# Altium schematic symbol library MyLibrary.SchLib: 261 symbols (part 1 of 4)
Pins are listed as number, name and electrical type; pins without a type are passive.

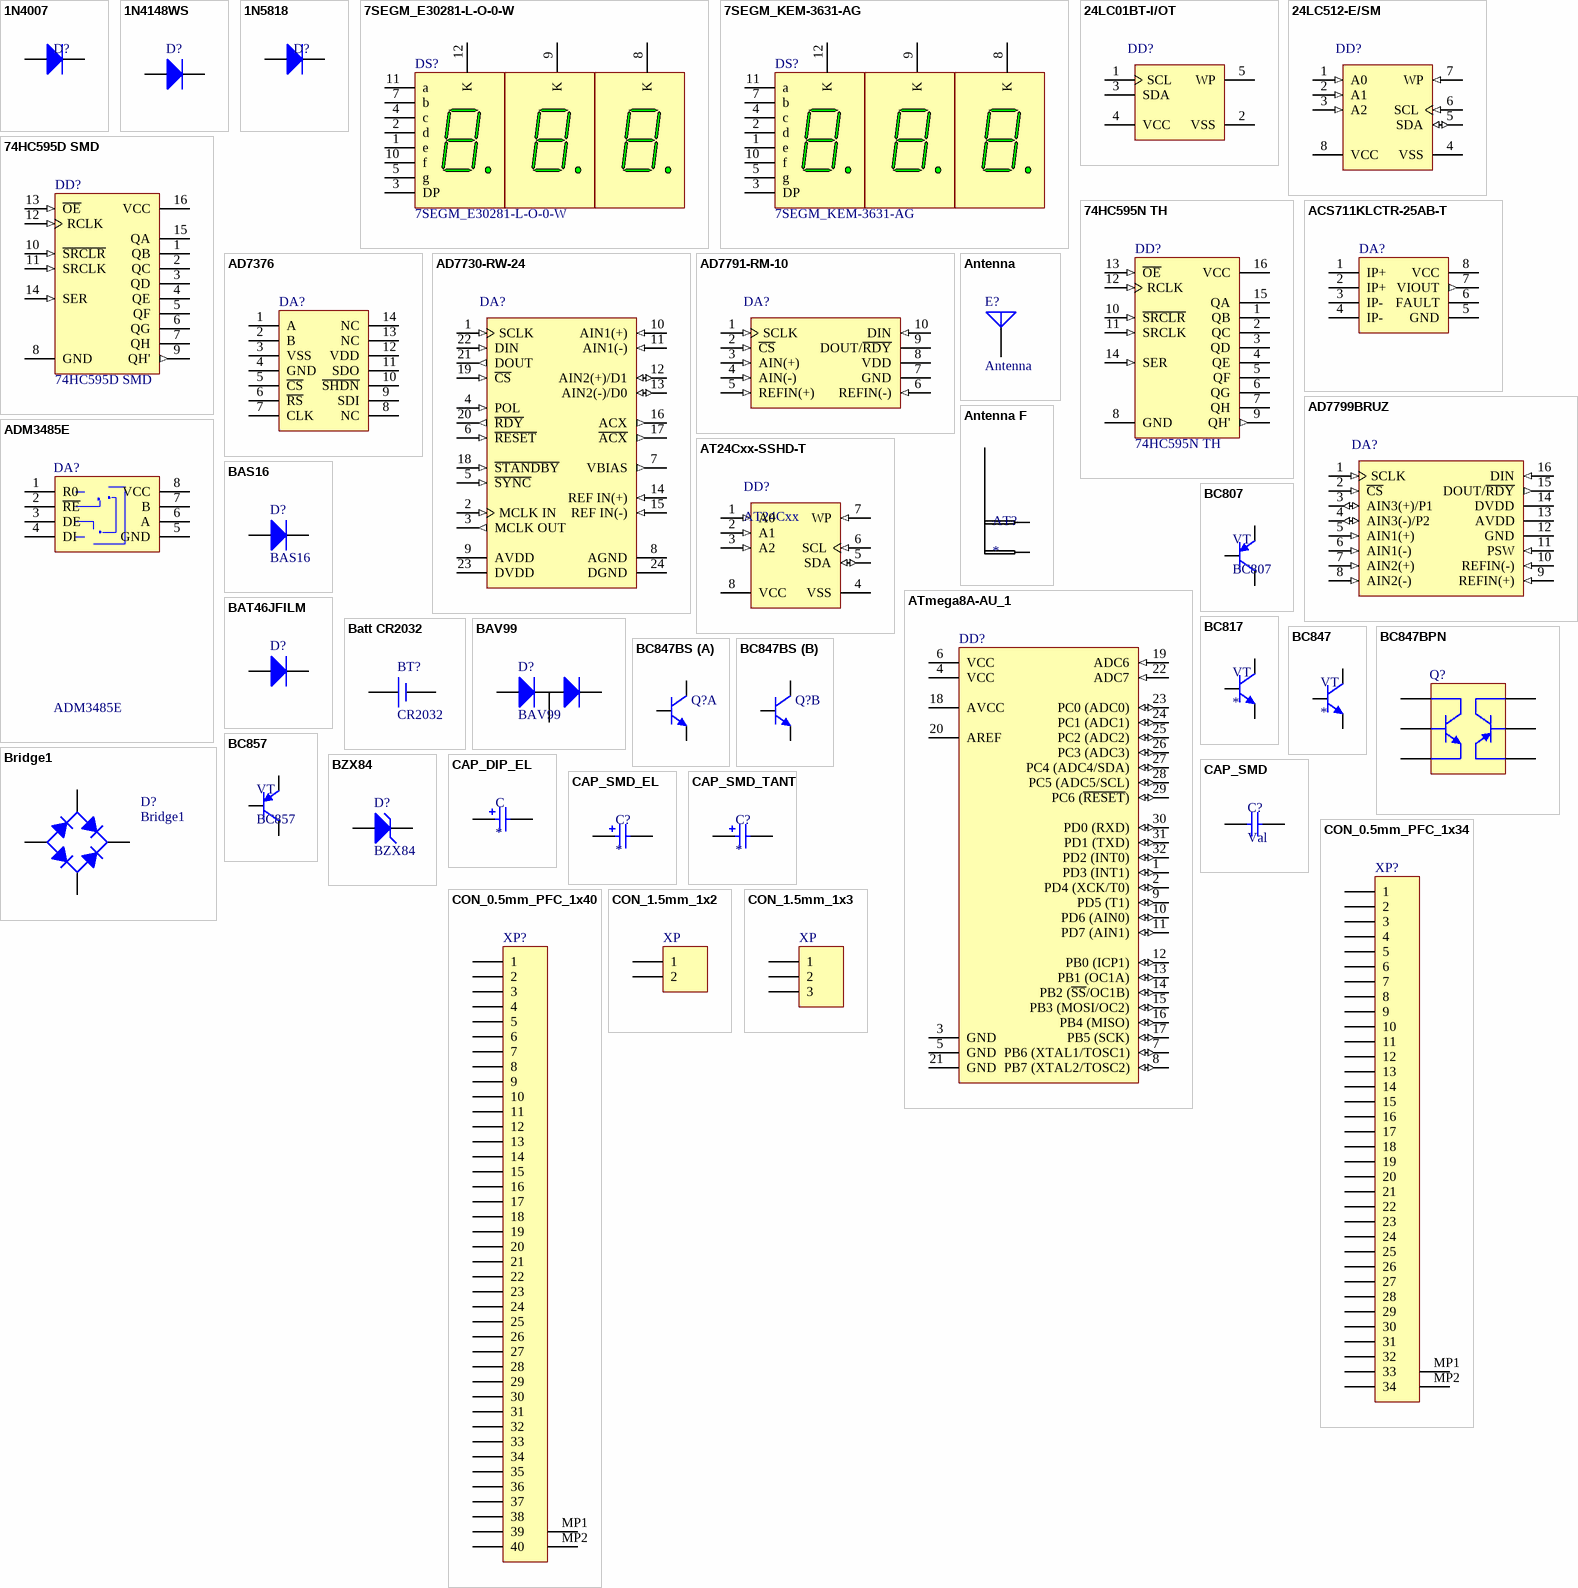
[diagram p0: symbols 1N4007 to CON_1.5mm_1x3]

## 1N4007
designator D?
Small Signal Fast Switching Diode 1000V, 1A; Published: 8-Jun-2000; LatestRevisionDate: 17-Jul-2002; LatestRevisionNote: Re-released for DXP Platform.; DatasheetDocument: 1998; PackageDocument: Aug-1999; PackageReference: DO-201AD; Publisher: Altium Limited; ComponentLink1Description: Manufacturer Link; ComponentLink1URL: http://www.fairchildsemi.com/; ComponentLink2Description: Datasheet; ComponentLink2URL: http://www.fairchildsemi.com/ds/1N%2F1N5400.pdf
footprint DIOD-1N (Diode, Axial; Body 95.2 x 2.7mm (LxDia. max), Lead Dia. 0.9 mm (max))
pins: 1 K, 2 A

## 1N4148WS
designator D?
Small Signal Fast Switching Diode; Published: 8-Jun-2000; LatestRevisionDate: 17-Jul-2002; LatestRevisionNote: Re-released for DXP Platform.; DatasheetDocument: 1998; PackageDocument: Aug-1999; PackageReference: DO-201AD; Publisher: Altium Limited; ComponentLink1Description: Manufacturer Link; ComponentLink1URL: http://www.fairchildsemi.com/; ComponentLink2Description: Datasheet; ComponentLink2URL: http://www.fairchildsemi.com/ds/1N%2F1N5400.pdf
footprint SOD-323 (SOD-123; 2 Leads; Body 2.7 x 1.6 mm, (LxW))
pins: 1 A, 2 K

## 1N5818
designator D?
Small Signal Fast Switching Diode; Published: 8-Jun-2000; LatestRevisionDate: 17-Jul-2002; LatestRevisionNote: Re-released for DXP Platform.; DatasheetDocument: 1998; PackageDocument: Aug-1999; PackageReference: DO-201AD; Publisher: Altium Limited; ComponentLink1Description: Manufacturer Link; ComponentLink1URL: http://www.fairchildsemi.com/; ComponentLink2Description: Datasheet; ComponentLink2URL: http://www.fairchildsemi.com/ds/1N%2F1N5400.pdf
footprint DIOD-1N (Diode, Axial; Body 95.2 x 2.7mm (LxDia. max), Lead Dia. 0.9 mm (max))
pins: 1 K, 2 A

## 7SEGM_E30281-L-O-0-W
designator DS?
7 mm Black Surface Green 7-Segment Display: CC, RH DP; MinimumIntensity: 860 ucd; Note: IF = 10 mA; Note: Pins 1 and 6 are redundant Cathodes.; Published: 8-Jun-2000; LatestRevisionDate: 17-Dec-2003; LatestRevisionNote: Schematic revised, PCB Footprint replaced.; DatasheetVersion: 19-Feb-2002; PackageVersion: 11-Feb-2002; PackageReference: A; Publisher: Altium Limited; PackageDescription: LED, 7-Segment Display, 7.62 mm, RHD; 10 Leads; Row Space 5.08 mm; Pitch 2.54 mm; Colour: Green; ComponentLink1Description: Manufacturer Link; ComponentLink1URL: http://www.agilent.com/
footprint 7SEGM_E30281-L-O-0-W RED (LED, 7-Segment Display, 7.62 mm, RHD; 10 Leads; Row Space 5.08 mm; Pitch 2.54 mm)
footprint 7SEGM_E30281-L-O-0-W GREEN (LED, 7-Segment Display, 7.62 mm, RHD; 10 Leads; Row Space 5.08 mm; Pitch 2.54 mm)
pins: 1 e "Anode", 2 d "Anode", 3 DP "Anode", 4 c "Anode", 5 g "Anode", 7 b "Anode", 8 K "Cathode", 9 K "Cathode", 10 f "Anode", 11 a "Anode", 12 K "Cathode"

## 7SEGM_KEM-3631-AG
designator DS?
7.62 mm Black Surface Green 7-Segment Display: CC, RH DP; MinimumIntensity: 860 ucd; Note: IF = 10 mA; Note: Pins 1 and 6 are redundant Cathodes.; Published: 8-Jun-2000; LatestRevisionDate: 17-Dec-2003; LatestRevisionNote: Schematic revised, PCB Footprint replaced.; DatasheetVersion: 19-Feb-2002; PackageVersion: 11-Feb-2002; PackageReference: A; Publisher: Altium Limited; PackageDescription: LED, 7-Segment Display, 7.62 mm, RHD; 10 Leads; Row Space 5.08 mm; Pitch 2.54 mm; Colour: Green; ComponentLink1Description: Manufacturer Link; ComponentLink1URL: http://www.agilent.com/
footprint 7SEGM_KEM-3631-AG_BLUE (LED, 7-Segment Display, 7.62 mm, RHD; 10 Leads; Row Space 5.08 mm; Pitch 2.54 mm)
footprint 7SEGM_KEM-3631-AG_RED (LED, 7-Segment Display, 7.62 mm, RHD; 10 Leads; Row Space 5.08 mm; Pitch 2.54 mm)
pins: 1 e "Anode", 2 d "Anode", 3 DP "Anode", 4 c "Anode", 5 g "Anode", 7 b "Anode", 8 K "Cathode", 9 K "Cathode", 10 f "Anode", 11 a "Anode", 12 K "Cathode"

## 24LC01BT-I/OT
designator DD?
1Kbit, 400kHz, 2.5V, I2C Serial EEPROM, 5-Pin SOT-23, Industrial Temperature, Tape and Reel; Manufacturer: Microchip; PartNumber: 24LC01BT-I/OT; DatasheetVersion: revJ, Jan-2009; PackageVersion: revBB, Aug-2009; PackageReference: SOT-23-OT5; PackageDescription: 5-Lead Plastic Small Outline Transistor (OT) [SOT-23]; Supplier 1: Digi-Key; Supplier Part Number 1: 24LC01BT-I/OTTR-ND; Supplier 2: Digi-Key; Supplier Part Number 2: 24LC01BT-I/OTCT-ND; Supplier 3: Digi-Key; Supplier Part Number 3: 24LC01BT-I/OTDKR-ND; Supplier 4: Farnell; Supplier Part Number 4: 9757880; Supplier 5: Farnell; Supplier Part Number 5: 9757880RL; Supplier 6: Newark; Supplier Part Number 6: 12C1993; Supplier 7: Mouser; Supplier Part Number 7: 579-24LC01BT-I/OT; Mounting Technology: Surface Mount; Code_IPC: SOT23-5; ComponentLink1Description: Manufacturer URL; ComponentLink1URL: http://www.microchip.com/; ComponentLink2Description: Datasheet; ComponentLink2URL: http://ww1.microchip.com/downloads/en/DeviceDoc/21711J.pdf; ComponentLink3Description: Package Specification; ComponentLink3URL: http://www.microchip.com/stellent/groups/techpub_sg/documents/packagingspec/en012702.pdf
footprint SOT-23-5_N (SOT23, 5-Leads, Body 2.9x1.7mm, Pitch 0.95mm, Lead Span 2.8mm, IPC High Density)
footprint SOT-23-5_L (SOT23, 5-Leads, Body 2.9x1.7mm, Pitch 0.95mm, Lead Span 2.8mm, IPC High Density)
pins: 1 SCL, 2 VSS (power), 3 SDA, 4 VCC (power), 5 WP

## 24LC512-E/SM
designator DD?
512Kbit, 400kHz, 2.5V, I2C Serial EEPROM, 8-Pin SOIC 208mil, Extended Temperature; Published: 29-Jan-2009; DatasheetVersion: revJ, Jul-2008; PackageVersion: revBB, Aug-2009; PackageReference: SOIJ-SM8; Publisher: Altium Limited; PackageDescription: 8-Lead Plastic Small Outline (SM) - Medium, 5.28 mm Body [SOIJ]; Supplier 1: Digi-Key; Supplier Part Number 1: 24LC512-E/SM-ND; Supplier 2: Farnell; Supplier Part Number 2: 1579574; ComponentLink1Description: Datasheet; ComponentLink1URL: http://ww1.microchip.com/downloads/en/DeviceDoc/21754J.pdf; ComponentLink2Description: Packaging Specification; ComponentLink2URL: http://www.microchip.com/stellent/groups/techpub_sg/documents/packagingspec/en012702.pdf; ComponentLink3Description: Microchip.com Home; ComponentLink3URL: http://www.microchip.com/
footprint SOIJ-SM8_N (SOP, 8-Leads, Body 5.2x5.2mm, Pitch 1.27mm, IPC Medium Density)
footprint SOIJ-SM8_L (SOP, 8-Leads, Body 5.2x5.2mm, Pitch 1.27mm, IPC High Density)
footprint SOIJ-SM8_M (SOP, 8-Leads, Body 5.2x5.2mm, Pitch 1.27mm, IPC Low Density)
pins: 1 A0 (in), 2 A1 (in), 3 A2 (in), 4 VSS (power), 5 SDA (io), 6 SCL (in), 7 WP (in), 8 VCC (power)

## 74HC595D SMD
designator DD?
8-Bit Shift Register with 3-State Output Registers; Published: 8-Jun-2000; LatestRevisionDate: 13-Apr-2006; LatestRevisionNote: IPC-7351 Footprint Added.; DatasheetVersion: May-1997; PackageVersion: Jan-1998; PackageReference: D016; Publisher: Altium Limited; PackageDescription: 16-Pin Small Outline Integrated Circuit 1.27 mm Pitch; Code_IPC: SOIC127P600-16; ComponentLink1Description: Manufacturer Link; ComponentLink1URL: http://www.ti.com/; ComponentLink2Description: Datasheet; ComponentLink2URL: http://www-s.ti.com/sc/ds/sn74hc595.pdf
footprint TSSOP-16 5x6 (Shrink Small Outline; 16 Leads; Body Width 4.4 mm; Pitch 0.65 mm)
footprint SOIC-16_L (SOIC, 16-Leads, Body 9.9x3.9mm, Pitch 1.27mm, IPC High Density)
pins: 1 QB (hiz), 2 QC (hiz), 3 QD (hiz), 4 QE (hiz), 5 QF (hiz), 6 QG (hiz), 7 QH (hiz), 8 GND (power), 9 QH' (out), 10 ~{SRCLR} (in), 11 SRCLK (in), 12 RCLK (in), 13 ~{OE} (in), 14 SER (in), 15 QA (hiz), 16 VCC (power)

## 74HC595N TH
designator DD?
8-Bit Shift Register with 3-State Output Registers; Published: 8-Jun-2000; LatestRevisionDate: 04-Mar-2005; LatestRevisionNote: Stylized 3D Model Added.; DatasheetVersion: May-1997; PackageVersion: Oct-1995; PackageReference: N016; Publisher: Altium Limited; PackageDescription: DIP; 16 Leads; Row Spacing 7.62 mm; Pitch 2.54 mm; Code_JEDEC: MS-001-BB; ComponentLink1Description: Manufacturer Link; ComponentLink1URL: http://www.ti.com/; ComponentLink2Description: Datasheet; ComponentLink2URL: http://www-s.ti.com/sc/ds/sn74hc595.pdf
footprint DIP-16 (DIP; 16 Leads; Row Spacing 7.62 mm; Pitch 2.54 mm)
pins: 1 QB (hiz), 2 QC (hiz), 3 QD (hiz), 4 QE (hiz), 5 QF (hiz), 6 QG (hiz), 7 QH (hiz), 8 GND (power), 9 QH' (out), 10 ~{SRCLR} (in), 11 SRCLK (in), 12 RCLK (in), 13 ~{OE} (in), 14 SER (in), 15 QA (hiz), 16 VCC (power)

## ACS711KLCTR-25AB-T
designator DA?
Current sensor; Published: 15-Apr-2002; LatestRevisionDate: 13-Apr-2006; LatestRevisionNote: IPC-7351 Footprint Added.; DatasheetVersion: Mar-2000; PackageVersion: 1998; PackageReference: 751-05; Publisher: Altium Limited; PackageDescription: 8-Pin Small Outline Integrated Circuit 1.27 mm Pitch; Code_JEDEC: MS-012-AA; Code_IPC: SOIC127P600-8; ComponentLink1Description: Manufacturer Link; ComponentLink1URL: http://www.onsemi.com/site/products/taxonomy/0,4438,503,00.html; ComponentLink2Description: Datasheet; ComponentLink2URL: http://www.onsemi.com/pub/Collateral/MC33275-D.PDF
footprint SOIC-8_L (SOIC, 8-Leads, Body 4.9x3.9mm, Pitch 1.27mm, IPC High Density)
footprint SOIC-8_M (SOIC, 8-Leads, Body 4.9x3.9mm, Pitch 1.27mm, IPC Low Density)
footprint SOIC-16_N (SOIC, 16-Leads, Body 9.9x3.9mm, Pitch 1.27mm, IPC Medium Density)
pins: 1 IP+ (power), 2 IP+ (power), 3 IP- (power), 4 IP- (power), 5 GND (power), 6 FAULT, 7 VIOUT (out), 8 VCC (power)

## AD7376
designator DA?
+30 V/±15 V Operation   128-Position Digital Potentiometer; Published: 24-Aug-2001; LatestRevisionDate: 17-Jul-2002; LatestRevisionNote: Re-released for DXP Platform.; DatasheetVersion: Feb-1999; PackageReference: TO92; Publisher: Altium Limited; PackageDescription: TO, Flat Index; 3 In-Line, Axial Leads; Body Dia. 4.8mm; Leads 0.51 x 0.51 mm (max); ComponentLink1Description: Manufacturer Link; ComponentLink1URL: http://www.st.com/
footprint TSSOP-14 5x6 (Shrink Small Outline, TSSOP; 14 Leads; Body Width 4.4 mm; Pitch 0.65 mm)
pins: 1 A, 2 B, 3 VSS, 4 GND, 5 ~{CS}, 6 ~{RS}, 7 CLK, 8 NC, 9 SDI, 10 ~{SHDN}, 11 SDO, 12 VDD, 13 NC, 14 NC

## AD7730-RW-24
designator DA?
footprint SOIC-24_L (SOIC, 24-Leads, Body 15.4x7.5mm, Pitch 1.27mm, IPC High Density)
footprint SOIC-24_M (SOIC, 24-Leads, Body 15.4x7.5mm, Pitch 1.27mm, IPC Low Density)
footprint SOIC-24_N (SOIC, 24-Leads, Body 15.4x7.5mm, Pitch 1.27mm, IPC Medium Density)
pins: 1 SCLK (in) "Serial Clock. Schmitt-Triggered Logic Input. An external serial clock is applied to this input to transfer serial data to or from the AD7730. This serial clock can be a continuous clock with all data transmitted in a (See Datasheet)", 2 MCLK IN (in) "Master Clock signal for the device. This can be provided in the form of a crystal/resonator or external clock. A crystal/resonator can be tied across the MCLK IN and MCLK OUT pins. Alternatively, the MCLK IN pin can be (See Datasheet)", 3 MCLK OUT (out) "When the master clock for the device is a crystal/resonator, the crystal/resonator is connected between MCLK IN and MCLK OUT. If an external clock is applied to the MCLK IN, MCLK OUT provides an inverted clock signal. This (See Datasheet)", 4 POL (in) "Clock Polarity. Logic Input. This determines the polarity of the serial clock. If the active edge for the processor is a high-to-low SCLK transition, this input should be low. In this mode, the AD7730 puts out data on the (See Datasheet)", 5 ~{SYNC} (in) "Logic Input that allows for synchronization of the digital filters and analog modulators when using a number of AD7730s. While S\Y\N\C\ is low, the nodes of the digital filter, the filter control logic and the calibration (See Datasheet)", 6 ~{RESET} (in) "Logic Input. Active low input that resets the control logic, interface logic, digital filter, analog modulator and all on-chip registers of the part to power-on status. Effectively, everything on the part except for the (See Datasheet)", 7 VBIAS (out) "Analog Output. This analog output is an internally-generated voltage used as an internal operating bias point.This output is not for use external to the AD7730 and it is recommended that the user does not connect anything to (See Datasheet)", 8 AGND (power) "Ground reference point for analog circuitry.", 9 AVDD (power) "Analog Positive Supply Voltage. The AVDD to AGND differential is 5 V nominal.", 10 AIN1(+) (in) "Analog Input Channel 1. Positive input of the differential, programmable-gain primary analog input pair. The differential analog input ranges are 0 mV to +10 mV, 0 mV to +20 mV, 0 mV to +40 mV and 0 mV to +80 mV in unipolar (See Datasheet)", 11 AIN1(-) (in) "Analog Input Channel 1. Negative input of the differential, programmable gain primary analog input pair.", 12 AIN2(+)/D1 (io) "Analog Input Channel 2 or Digital Output 1. This pin can be used either as part of a second analog input channel or as a digital output bit as determined by the DEN bit of the Mode Register. When selected as an analog input, (See Datasheet)", 13 AIN2(-)/D0 (io) "Analog Input Channel 2 or Digital Output 0. This pin can be used either as part of a second analog input channel or as a digital output bit as determined by the DEN bit of the Mode Register. When selected as an analog input, (See Datasheet)", 14 REF IN(+) (in) "Reference Input. Positive terminal of the differential reference input to the AD7730. REF IN(+) can lie anywhere between AVDD and AGND. The nominal reference voltage (the differential voltage between REF IN(+) and REF IN(-)) (See Datasheet)", 15 REF IN(-) (in) "Reference Input. Negative terminal of the differential reference input to the AD7730. The REF IN(-) potential can lie anywhere between AVDD and AGND.", 16 ACX (out) "Digital Output. Provides a signal that can be used to control the reversing of the bridge excitation in acexcited bridge applications. When ACX is high, the bridge excitation is taken as normal and when ACX is low, the (See Datasheet)", 17 ~{ACX} (out) "Digital Output. Provides a signal that can be used to control the reversing of the bridge excitation in acexcited bridge applications. This output is the complement of ACX. In ac mode, this means that it toggles in (See Datasheet)", 18 ~{STANDBY} (in) "Logic Input. Taking this pin low shuts down the analog and digital circuitry, reducing current consumption to the 5 uA range. The on-chip registers retain all their values when the part is in standby mode.", 19 ~{CS} (in) "Chip Select. Active low Logic Input used to select the AD7730. With this input hardwired low, the AD7730 can operate in its three-wire interface mode with SCLK, DIN and DOUT used to interface to the device. C\S\ can be used (See Datasheet)", 20 ~{RDY} (out) "Logic Output. Used as a status output in both conversion mode and calibration mode. In conversion mode, a logic low on this output indicates that a new output word is available from the AD7730 data register. The R\D\Y\ pin (See Datasheet)", 21 DOUT (out) "Serial Data Output with serial data being read from the output shift register on the part. This output shift register can contain information from the calibration registers, mode register, status register, filter (See Datasheet)", 22 DIN (in) "Serial Data Input with serial data being written to the input shift register on the part. Data from this input shift register is transferred to the calibration registers, mode register, communications register, DAC register (See Datasheet)", 23 DVDD (power) "Digital Supply Voltage, +3 V or +5 V nominal.", 24 DGND (power) "Ground reference point for digital circuitry."

## AD7791-RM-10
designator DA?
Single 24-Bit Low Power Sigma-Delta Analog-to-Digital Converter with Serial, SPI Interface, 120SPS, -40 to +105 degC
footprint TSSOP-10_N (TSSOP, 10-Leads, Body 3x3mm, Pitch 0.5mm, IPC Medium Density)
footprint TSSOP-10_L (TSSOP, 10-Leads, Body 3x3mm, Pitch 0.5mm, IPC High Density)
footprint TSSOP-10_M (TSSOP, 10-Leads, Body 3x3mm, Pitch 0.5mm, IPC Low Density)
pins: 1 SCLK (in) "Serial Clock Input for Data Transfers to and from the ADC. The SCLK has a Schmitttriggered input, making the interface suitable for opto-isolated applications. The serial clock can be continuous with all data transmitted in (See Datasheet)", 2 ~{CS} (in) "Chip Select Input. This is an active low logic input used to select the ADC. C\S\ can be used to select the ADC in systems with more than one device on the serial bus or as a frame synchronization signal in communicating (See Datasheet)", 3 AIN(+) (in) "Analog Input. AIN(+) is the positive terminal of the fully differential analog input.", 4 AIN(-) (in) "Analog Input. AIN(-) is the negative terminal of the fully differential analog input.", 5 REFIN(+) (in) "Positive Reference Input. REFIN(+) can lie anywhere between VDD and GND + 0.1 V. The nominal reference voltage (REFIN(+) -REFIN(-)) is 2.5 V, but the part functions with a reference from 0.1 V to VDD.", 6 REFIN(-) (in) "Negative Reference Input. This reference input can lie anywhere between GND and VDD - 0.1 V.", 7 GND (power) "Ground Reference Point.", 8 VDD (power) "Supply Voltage, 2.5 V to 5.25 V.", 9 DOUT/~{RDY} (hiz) "Serial Data Output/Data Ready Output. DOUT/R\D\Y\ serves a dual purpose . It functions as a serial data output pin to access the output shift register of the ADC. The output shift register can contain data from any of the (See Datasheet)", 10 DIN (in) "Serial Data Input to the Input Shift Register on the ADC. Data in this shift register is transferred to the control registers within the ADC, the register selection bits of the communications register identifying the (See Datasheet)"

## AD7799BRUZ
designator DA?
3-Channel Σ-Δ ADC  Low Noise, Low Power,   16-/24-Bit, with On-Chip In-Amp
footprint TSSOP-16 5x6 (Shrink Small Outline; 16 Leads; Body Width 4.4 mm; Pitch 0.65 mm)
pins: 1 SCLK (in) "Serial Clock Input.  This serial clock input is for data transfers to and from the ADC. The SCLK has a Schmitt-triggered  input, making the interface suitable for opto-isolated applications. The serial clock can be (See Datasheet)", 2 ~{CS} (in) "Chip Select Input. This is an active low logic input used to select the ADC. C\S\ can be used to select the ADC in systems with more than one device on the serial bus, or it can be used as a frame synchronization signal when (See Datasheet)", 3 AIN3(+)/P1 (io) "Analog Input/Digital Output Pin. AIN3(+) is the positive terminal of the differential analog input pair AIN3(+)/AIN3(-).  Alternatively, this pin can function as a general-purpose output bit referenced between AVDD and GND", 4 AIN3(-)/P2 (io) "Analog Input/Digital Output Pin. AIN3(-) is the negative terminal of the differential analog input pair AIN3(+)/AIN3(-). Alternatively, this pin can function as a general-purpose output bit referenced between AVDD and GND", 5 AIN1(+) (in) "Analog Input. AIN1(+) is the positive terminal of the differential analog input pair AIN1(+)/AIN1(-).", 6 AIN1(-) (in) "Analog Input. AIN1(-) is the negative terminal of the differential analog input pair AIN1(+)/AIN1(-).", 7 AIN2(+) (in) "Analog Input. AIN2(+) is the positive terminal of the differential analog input pair AIN2(+)/AIN2(-).", 8 AIN2(-) (in) "Analog Input. AIN2(-) is the negative terminal of the differential analog input pair AIN2(+)/AIN2(-).", 9 REFIN(+) (in) "Positive Reference Input. An external reference can be applied between REFIN(+) and REFIN(-). REFIN(+) can lie  anywhere between AVDD and GND + 0.1 V. The nominal reference voltage (REFIN(+) - REFIN(-)) is 2.5 V, but the (See Datasheet)", 10 REFIN(-) (in) "Negative Reference Input. REFIN(-) is the negative reference input for REFIN. This reference input can lie anywhere between GND and AVDD - 0.1 V.", 11 PSW (in) "Low-Side Power Switch to GND.", 12 GND (power) "Ground Reference Point.", 13 AVDD (power) "Supply Voltage. 2.7 V to 5.25 V.", 14 DVDD (power) "Digital Interface Supply Voltage. The logic levels for the serial interface pins are related to this supply, which is between 2.7 V and 5.25 V. The DVDD voltage is independent of the voltage on AVDD; therefore, AVDD can (See Datasheet)", 15 DOUT/~{RDY} (out) "Serial Data Output/Data Ready Output. DOUT/R\D\Y\ serves a dual purpose. It functions as a serial data output pin to access the output shift register of the ADC. The output shift register can contain data from any of the (See Datasheet)", 16 DIN (in) "Serial Data Input to the Input Shift Register on the ADC. Data in this shift register is transferred to the control registers within the ADC, with the register selection bits of the communication register identifying the (See Datasheet)"

## ADM3485E
designator DA?
3V 12Mbps RS-485/RS-422 Transceiver; Published: 16-Jan-2001; LatestRevisionDate: 13-Apr-2006; LatestRevisionNote: IPC-7351 Footprint Added.; DatasheetVersion: Mar-1999; PackageReference: NSO16; Publisher: Altium Limited; PackageDescription: 16-Pin Small Outline Integrated Circuit 1.27 mm Pitch; Code_JEDEC: MS-012-AC; Code_IPC: SOIC127P600-16; ComponentLink1Description: Manufacturer Link; ComponentLink1URL: http://www.maxim-ic.com/; ComponentLink2Description: Datasheet; ComponentLink2URL: http://pdfserv.maxim-ic.com/en/ds/MAX3222-MAX3241.pdf
footprint SOIC-8_N (SOIC, 8-Leads, Body 4.9x3.9mm, Pitch 1.27mm, IPC Medium Density)
pins: 1 R0, 2 ~{RE} (power), 3 DE, 4 DI, 5 GND, 6 A (power), 7 B, 8 VCC

## Antenna
designator E?
Generic Antenna; Published: 24-Mar-1999; LatestRevisionDate: 17-Jul-2002; LatestRevisionNote: Re-released for DXP Platform.; PackageReference: PIN1; Publisher: Altium Limited
footprint Con_PIN_N (Connector; Plug)
footprint Antenna W-Type PCB (Chip Capacitor; Body 1.6 x 0.8 mm (LxW typ))
pins: 1 A

## Antenna F
designator AT?
Antenna F-Type
footprint Antenna F-Type PCB (Chip Capacitor; Body 1.6 x 0.8 mm (LxW typ))
pins: 1 Signal, 2 GND

## AT24Cxx-SSHD-T
designator DD?, comment AT24Cxx
Serial EEPROM  I2C-Compatible (2-wire)  512-Kbit (65,536 x 8); Published: 29-Jan-2009; DatasheetVersion: revJ, Jul-2008; PackageVersion: revBB, Aug-2009; PackageReference: SOIJ-SM8; Publisher: Altium Limited; PackageDescription: 8-Lead Plastic Small Outline (SM) - Medium, 5.28 mm Body [SOIJ]; Supplier 1: Digi-Key; Supplier Part Number 1: 24LC512-E/SM-ND; Supplier 2: Farnell; Supplier Part Number 2: 1579574; ComponentLink1Description: Datasheet; ComponentLink1URL: http://ww1.microchip.com/downloads/en/DeviceDoc/21754J.pdf; ComponentLink2Description: Packaging Specification; ComponentLink2URL: http://www.microchip.com/stellent/groups/techpub_sg/documents/packagingspec/en012702.pdf; ComponentLink3Description: Microchip.com Home; ComponentLink3URL: http://www.microchip.com/
footprint SOIC-8_N (SOIC, 8-Leads, Body 4.9x3.9mm, Pitch 1.27mm, IPC Medium Density)
pins: 1 A0 (in), 2 A1 (in), 3 A2 (in), 4 VSS (power), 5 SDA (io), 6 SCL (in), 7 WP (in), 8 VCC (power)

## ATmega8A-AU_1
designator DD?
8-bit AVR Microcontroller, 8KB Flash, 512 Bytes EEPROM, 1KB SRAM, 32-pin TQFP, Industrial Grade (-40°C to 85°C); Published: 1-Apr-2010; DatasheetVersion: revC, Jul-2009; PackageVersion: revB, Oct-2001; PackageReference: 32A; Publisher: Altium Limited; PackageDescription: 32-Lead, 7x7x1.0 mm Body, 0.8mm Lead Pitch, Thin Profile Plastic Quad Flat Package (TQFP); Supplier 1: Digi-Key; Supplier Part Number 1: ATMEGA8A-AU-ND; Supplier 2: Farnell; Supplier Part Number 2: 1748532; Supplier 3: Mouser; Supplier Part Number 3: 556-ATMEGA8A-AU; Code_JEDEC: MS-026-ABA; ComponentLink1Description: Manufacturer Link; ComponentLink1URL: http://www.atmel.com/products/avr/default.asp?; ComponentLink2Description: ATmega8A Datasheet; ComponentLink2URL: http://www.atmel.com/dyn/resources/prod_documents/doc8159.pdf; ComponentLink3Description: ATmega8A Summary; ComponentLink3URL: http://www.atmel.com/dyn/resources/prod_documents/8159S.pdf; ComponentLink4Description: Atmel.com Home; ComponentLink4URL: http://www.atmel.com
footprint 32A_N
pins: 1 PD3 (INT1) (io), 2 PD4 (XCK/T0) (io), 3 GND (power), 4 VCC (power), 5 GND (power), 6 VCC (power), 7 PB6 (XTAL1/TOSC1) (io), 8 PB7 (XTAL2/TOSC2) (io), 9 PD5 (T1) (io), 10 PD6 (AIN0) (io), 11 PD7 (AIN1) (io), 12 PB0 (ICP1) (io), 13 PB1 (OC1A) (io), 14 PB2 (~{SS}/OC1B) (io), 15 PB3 (MOSI/OC2) (io), 16 PB4 (MISO) (io), 17 PB5 (SCK) (io), 18 AVCC (power), 19 ADC6 (in), 20 AREF (power), 21 GND (power), 22 ADC7 (in), 23 PC0 (ADC0) (io), 24 PC1 (ADC1) (io), 25 PC2 (ADC2) (io), 26 PC3 (ADC3) (io), 27 PC4 (ADC4/SDA) (io), 28 PC5 (ADC5/SCL) (io), 29 PC6 (~{RESET}) (io), 30 PD0 (RXD) (io), 31 PD1 (TXD) (io), 32 PD2 (INT0) (io)

## BAS16
designator D?
Small Signal Diode; Published: 8-Jun-2000; LatestRevisionDate: 17-Jul-2002; LatestRevisionNote: Re-released for DXP Platform.; DatasheetDocument: 1998; PackageDocument: Aug-1999; PackageReference: DO-201AD; Publisher: Altium Limited; ComponentLink1Description: Manufacturer Link; ComponentLink1URL: http://www.fairchildsemi.com/; ComponentLink2Description: Datasheet; ComponentLink2URL: http://www.fairchildsemi.com/ds/1N%2F1N5400.pdf
footprint SOT-23_L (SOT23, 3-Leads, Body 2.9x1.3mm, Pitch 0.95mm, Lead Span 2.3mm - Reverse Pinning, IPC High Density)
pins: 1 A, 3 K

## BAT46JFILM
designator D?
Small Signal Schottky Diode I=150mA, U=100V; Published: 8-Jun-2000; LatestRevisionDate: 17-Jul-2002; LatestRevisionNote: Re-released for DXP Platform.; DatasheetDocument: 1998; PackageDocument: Aug-1999; PackageReference: DO-201AD; Publisher: Altium Limited; ComponentLink1Description: Manufacturer Link; ComponentLink1URL: http://www.fairchildsemi.com/; ComponentLink2Description: Datasheet; ComponentLink2URL: http://www.fairchildsemi.com/ds/1N%2F1N5400.pdf
footprint SOD-323 (SOD-123; 2 Leads; Body 2.7 x 1.6 mm, (LxW))
pins: 1 A, 2 K

## Batt CR2032
designator BT?, comment CR2032
Battery Li-ion, single cell 3V; Published: 24-Mar-1999; LatestRevisionDate: 17-Jul-2002; LatestRevisionNote: Re-released for DXP Platform.; PackageReference: BAT-2; Publisher: Altium Limited; PackageDescription: Battery; 2 Leads
footprint BAT CR2032 (Battery; 3 Leads)
pins: 1 +, 2 -

## BAV99
designator D?
70V, 200mA, 6ns Small Signal Diode; Published: 8-Jun-2000; LatestRevisionDate: 17-Jul-2002; LatestRevisionNote: Re-released for DXP Platform.; DatasheetDocument: 1998; PackageDocument: Aug-1999; PackageReference: DO-201AD; Publisher: Altium Limited; ComponentLink1Description: Manufacturer Link; ComponentLink1URL: http://www.fairchildsemi.com/; ComponentLink2Description: Datasheet; ComponentLink2URL: http://www.fairchildsemi.com/ds/1N%2F1N5400.pdf
footprint SOT-23_L (SOT23, 3-Leads, Body 2.9x1.3mm, Pitch 0.95mm, Lead Span 2.3mm - Reverse Pinning, IPC High Density)
pins: 1 A, 2 K, 3 A

## BC807
designator VT
PNP General-purpose Transistor
footprint SOT-23_L (SOT23, 3-Leads, Body 2.9x1.3mm, Pitch 0.95mm, Lead Span 2.3mm - Reverse Pinning, IPC High Density)
footprint SOT-23_N (SOT23, 3-Leads, Body 2.9x1.3mm, Pitch 0.95mm, Lead Span 2.3mm - Reverse Pinning, IPC Medium Density)
footprint SOT-23_M (SOT23, 3-Leads, Body 2.9x1.3mm, Pitch 0.95mm, Lead Span 2.3mm - Reverse Pinning, IPC Low Density)
pins: 1 B, 2 E, 3 C

## BC817
designator VT
NPN General-purpose Transistor 45v, 500mA
footprint SOT-23_L (SOT23, 3-Leads, Body 2.9x1.3mm, Pitch 0.95mm, Lead Span 2.3mm - Reverse Pinning, IPC High Density)
pins: 1 B, 2 E, 3 C

## BC847
designator VT
NPN General-purpose Transistor 45V, 100mA
footprint SOT-23_L (SOT23, 3-Leads, Body 2.9x1.3mm, Pitch 0.95mm, Lead Span 2.3mm - Reverse Pinning, IPC High Density)
pins: 1 B, 2 E, 3 C

## BC847BPN
designator Q?
NPN/PNP General-purpose Transistors; Published: 17-Sep-2003; LatestRevisionDate: 12-Dec-2006; LatestRevisionNote: IPC-7351 Footprint Added.; DatasheetVersion: 26-Oct-2001; PackageVersion: Feb-1997; PackageReference: SOT363; Publisher: Altium Limited; PackageDescription: 6-Pin SOT-363 Package 0.65 mm Pitch, 2.1 mm Lead Span; Code_JEITA: SC-88; Code_JEDEC: MO-203-AB; Code_IPC: SOT363-6; ComponentLink1Description: Manufacturer Link; ComponentLink1URL: http://www.semiconductors.philips.com/; ComponentLink2Description: Datasheet; ComponentLink2URL: http://www.semiconductors.philips.com/acrobat/datasheets/BC847BPN_3.pdf
footprint SOT-363_N (SOT363, 6-Leads, Body 2x1.3mm, Pitch 0.65mm, Lead Span 2.1mm, IPC Medium Density)
footprint SOT-363_L (SOT363, 6-Leads, Body 2x1.3mm, Pitch 0.65mm, Lead Span 2.1mm, IPC High Density)
footprint SOT-363_M (SOT363, 6-Leads, Body 2x1.3mm, Pitch 0.65mm, Lead Span 2.1mm, IPC Low Density)
simulation model BC847BPN (SUBCKT)
signal-integrity model BC847BPN
pins: 1 E1, 2 B1, 3 C2, 4 E2, 5 B2, 6 C1

## BC847BS
designator Q?
NPN General-purpose Double Transistor; Published: 17-Sep-2003; LatestRevisionDate: 12-Dec-2006; LatestRevisionNote: IPC-7351 Footprint Added.; DatasheetVersion: 28-Apr-1999; PackageVersion: Feb-1997; PackageReference: SOT363; Publisher: Altium Limited; PackageDescription: 6-Pin SOT-363 Package 0.65 mm Pitch, 2.1 mm Lead Span; Code_JEITA: SC-88; Code_JEDEC: MO-203-AB; Code_IPC: SOT363-6; ComponentLink1Description: Manufacturer Link; ComponentLink1URL: http://www.semiconductors.philips.com/; ComponentLink2Description: Datasheet; ComponentLink2URL: http://www.semiconductors.philips.com/acrobat/datasheets/BC847BS_2.pdf
footprint SOT-363_N (SOT363, 6-Leads, Body 2x1.3mm, Pitch 0.65mm, Lead Span 2.1mm, IPC Medium Density)
footprint SOT-363_L (SOT363, 6-Leads, Body 2x1.3mm, Pitch 0.65mm, Lead Span 2.1mm, IPC High Density)
footprint SOT-363_M (SOT363, 6-Leads, Body 2x1.3mm, Pitch 0.65mm, Lead Span 2.1mm, IPC Low Density)
simulation model BC847BS (NPN)
signal-integrity model BC847BS
part A pins: 1 E, 2 B, 6 C
part B pins: 3 C, 4 E, 5 B

## BC857
designator VT
PNP General-purpose Transistor
footprint SOT-23_L (SOT23, 3-Leads, Body 2.9x1.3mm, Pitch 0.95mm, Lead Span 2.3mm - Reverse Pinning, IPC High Density)
footprint SOT-23_N (SOT23, 3-Leads, Body 2.9x1.3mm, Pitch 0.95mm, Lead Span 2.3mm - Reverse Pinning, IPC Medium Density)
footprint SOT-23_M (SOT23, 3-Leads, Body 2.9x1.3mm, Pitch 0.95mm, Lead Span 2.3mm - Reverse Pinning, IPC Low Density)
pins: 1 B, 2 E, 3 C

## Bridge1
designator D?
Full Wave Diode Bridge; Published: 8-Jun-2000; LatestRevisionDate: 29-May-2009; LatestRevisionNote: Sch pins A & K swapped.; DatasheetVersion: E2732B; PackageReference: D-38; Publisher: Altium Limited; PackageDescription: Bridge Rectifier; 4 Terminals; Body 9.4 x 9.4 mm (typ); Pitch 5.08 mm
footprint D-bridge_6A (Bridge Rectifier; 4 Terminals; Body 16.8 x 16.8 mm (typ); Pitch 10.67 mm)
pins: 1 K, 2 C, 3 A, 4 C

## BZX84
designator D?
Zener Diode; Published: 8-Jun-2000; LatestRevisionDate: 17-Jul-2002; LatestRevisionNote: Re-released for DXP Platform.; PackageReference: DIODE-0.7; Publisher: Altium Limited; PackageDescription: Diode, Thru-Hole; 2 Leads; 0.7 in Pin Spacing
footprint SOT-23_L (SOT23, 3-Leads, Body 2.9x1.3mm, Pitch 0.95mm, Lead Span 2.3mm - Reverse Pinning, IPC High Density)
footprint SOT-23_M (SOT23, 3-Leads, Body 2.9x1.3mm, Pitch 0.95mm, Lead Span 2.3mm - Reverse Pinning, IPC Low Density)
footprint SOT-23_N (SOT23, 3-Leads, Body 2.9x1.3mm, Pitch 0.95mm, Lead Span 2.3mm - Reverse Pinning, IPC Medium Density)
pins: 1 A, 3 K

## CAP_DIP_EL
designator C
Capacitor TH
footprint CAP_DIP_3.5 (Polarized Capacitor (Radial); 2 Leads)
footprint CAP_DIP_3.5_VERT (Polarized Capacitor (Radial); 2 Leads)
footprint CAP_DIP_22x10x5.0 (Polarized Capacitor (Radial); 2 Leads)
pins: 1, 2

## CAP_SMD
designator C?, comment Val
Capacitor SMD
footprint CAP 1206_M (Chip Resistor, Body 2.0x1.2mm, IPC Low Density)
footprint CAP 1210_L (Chip Capacitor, Body 3.2x2.5mm, IPC High Density)
footprint CAP 1210_M (Chip Capacitor, Body 3.2x2.5mm, IPC Low Density)
footprint CAP 1210_N (Chip Capacitor, Body 3.2x2.5mm, IPC Medium Density)
footprint CAP 0402 (Chip Capacitor; Body 1.0 x 0.5 mm (LxW typ))
footprint CAP 0603_L (Chip Resistor, Body 2.0x1.2mm, IPC Low Density)
footprint CAP 0603_N (Chip Capacitor; Body 1.6 x 0.8 mm (LxW typ))
footprint CAP 0805_L (Chip Resistor, Body 2.0x1.2mm, IPC Low Density)
footprint CAP 0805_N (Chip Resistor, Body 2.0x1.2mm, IPC Low Density)
pins: 1, 2

## CAP_SMD_EL
designator C?
Aluminum Electrolytic Capacitors: SMD
footprint CAP EL_SMD_d6x7_150_25V (Chip Capacitor; Body 1.6 x 0.8 mm (LxW typ))
footprint CAP EL_SMD_d6x5_220_16V (Chip Capacitor; Body 1.6 x 0.8 mm (LxW typ))
footprint CAP EL_SMD_d4_0x5_4 (Chip Capacitor; Body 1.6 x 0.8 mm (LxW typ))
footprint CAP EL_SMD_d5_0x5_9 (Chip Capacitor; Body 1.6 x 0.8 mm (LxW typ))
footprint CAP EL_SMD_d6_3x5_9 (Chip Capacitor; Body 1.6 x 0.8 mm (LxW typ))
footprint CAP EL_SMD_d8_0x6_9 (Chip Capacitor; Body 1.6 x 0.8 mm (LxW typ))
footprint CAP EL_SMD_d8_0x11_9 (Chip Capacitor; Body 1.6 x 0.8 mm (LxW typ))
footprint CAP EL_SMD_d10_0x12_6 (Chip Capacitor; Body 1.6 x 0.8 mm (LxW typ))
footprint CAP EL_SMD_d8_0x10_220_25V (Chip Capacitor; Body 1.6 x 0.8 mm (LxW typ))
pins: 1, 2

## CAP_SMD_TANT
designator C?
Capacitor SMD Tantalum
footprint CAP_TANT_A_TYPE_3216-18 (Capacitor, SM Tantalum; Body 3.2 x 1.6 mm (LxW typ))
footprint CAP_TANT_B_TYPE_3528-21 (Capacitor, SM Tantalum; Body 3.5 x 2.8 mm (LxW typ))
footprint CAP_TANT_C_TYPE_6032-28 (Capacitor, SM Tantalum; Body 6.0 x 3.2 mm (LxW typ))
footprint CAP_TANT_D_TYPE_7343-31 (Chip Capacitor, Body 5.7x6.4mm, IPC High Density)
footprint CAP_TANT_E_TYPE_7260-38 (Capacitor, SM Tantalum; Body 7.3 x 6.0 mm (LxW typ))
footprint CAP_TANT_R_TYPE_2012-12 (Capacitor, SM Tantalum; Body 2.0 x 1.3 mm (LxW typ))
footprint CAP_TANT_R_TYPE_2012-12 (Capacitor, SM Tantalum; Body 2.0 x 1.3 mm (LxW typ))
footprint CAP_TANT_T_TYPE (Capacitor, SM Tantalum; Body 3.5 x 2.8 mm (LxW typ))
footprint CAP_TANT_U_TYPE (Capacitor, SM Tantalum; Body 6.0 x 3.2 mm (LxW typ))
footprint CAP_TANT_V_TYPE_7343-20 (Capacitor, SM Tantalum; Body 7.3 x 4.3 mm (LxW typ))
footprint CAP_TANT_V_TYPE_7343-20 (Capacitor, SM Tantalum; Body 7.3 x 4.3 mm (LxW typ))
footprint CAP_TANT_X_TYPE_7343-43 (Capacitor, SM Tantalum; Body 7.3 x 4.3 mm (LxW typ))
pins: 1, 2

## CON_0.5mm_PFC_1x34
designator XP?
Header, 34-Pin; LatestRevisionDate: 17-Jul-2002; LatestRevisionNote: Re-released for DXP Platform.; Publisher: Altium Limited
footprint CON_0.5MM_PFC_1X34 (Crystal, SM; 4 Leads; Body 8 x 3.8 x 2.5 mm (LxWxH))
pins: 1 "MISO", 2 "VCC+", 3 "SCK", 4 "MOSI", 5 "RESET", 6 "GND", 7 "GND", 8 "GND", 9, 10, 11, 12, 13, 14, 15, 16, 17, 18, 19, 20, 21, 22, 23, 24, 25, 26, 27, 28, 29, 30, 31, 32, 33, 34, MP1, MP2

## CON_0.5mm_PFC_1x40
designator XP?
Header, 40-Pin; LatestRevisionDate: 17-Jul-2002; LatestRevisionNote: Re-released for DXP Platform.; Publisher: Altium Limited
footprint CON_0.5MM_PFC_1X40 (Crystal, SM; 4 Leads; Body 8 x 3.8 x 2.5 mm (LxWxH))
pins: 1 "MISO", 2 "VCC+", 3 "SCK", 4 "MOSI", 5 "RESET", 6 "GND", 7 "GND", 8 "GND", 9, 10, 11, 12, 13, 14, 15, 16, 17, 18, 19, 20, 21, 22, 23, 24, 25, 26, 27, 28, 29, 30, 31, 32, 33, 34, 35, 36, 37, 38, 39, 40, MP1, MP2

## CON_1.5mm_1x2
designator XP
Contact pads, 3-Pin 1.5mm pitch; LatestRevisionDate: 17-Jul-2002; LatestRevisionNote: Re-released for DXP Platform.; Publisher: Altium Limited
footprint CON_1.5MM_1X2 (Connector; Header; 2 Position)
pins: 1 "MISO", 2 "VCC+"

## CON_1.5mm_1x3
designator XP
Contact pads, 3-Pin 1.5mm pitch; LatestRevisionDate: 17-Jul-2002; LatestRevisionNote: Re-released for DXP Platform.; Publisher: Altium Limited
footprint CON_1.5MM_1X3 (Connector; Header; 4 Position)
pins: 1 "MISO", 2 "VCC+", 3 "SCK"

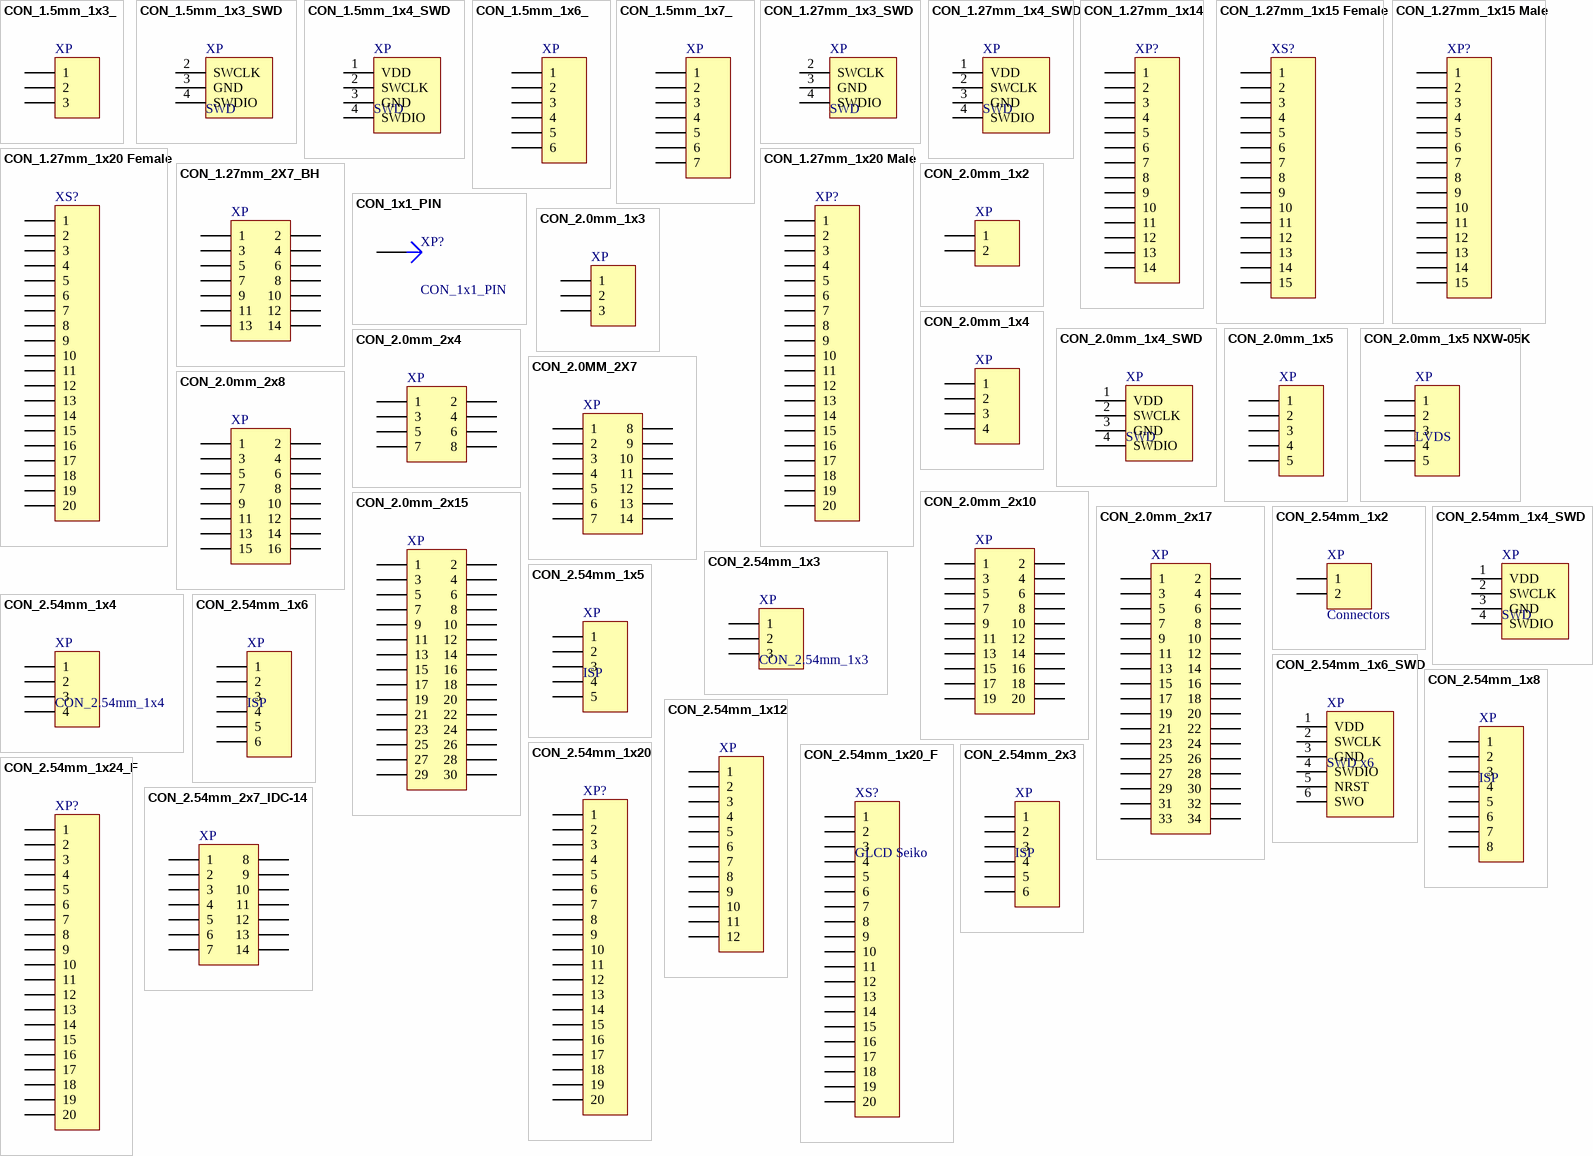
[diagram p1: symbols CON_1.5mm_1x3_ to CON_2.54mm_2x7_IDC-14]

## CON_1.5mm_1x3_
designator XP
Contact pads, 3-Pin 1.5mm pitch; LatestRevisionDate: 17-Jul-2002; LatestRevisionNote: Re-released for DXP Platform.; Publisher: Altium Limited
footprint CON_1.5MM_1X3_ (Contact pads, 3-Pin 1.5mm pitch)
pins: 1 "MISO", 2 "VCC+", 3 "SCK"

## CON_1.5mm_1x3_SWD
designator XP, comment SWD
Contact pads, 3-Pin 1.5mm pitch; LatestRevisionDate: 17-Jul-2002; LatestRevisionNote: Re-released for DXP Platform.; Publisher: Altium Limited
footprint CON_1.5MM_1X3 SWD (Connector; Header; 3 Position)
pins: 2 SWCLK, 3 GND, 4 SWDIO

## CON_1.5mm_1x4_SWD
designator XP, comment SWD
Contact pads, 4-Pin 1.5mm pitch; LatestRevisionDate: 17-Jul-2002; LatestRevisionNote: Re-released for DXP Platform.; Publisher: Altium Limited
footprint CON_1.5MM_1X4_SWD (Connector; Header; 4 Position)
pins: 1 VDD, 2 SWCLK, 3 GND, 4 SWDIO

## CON_1.5mm_1x6_
designator XP
Contact pads, 6-Pin 1.5mm pitch; LatestRevisionDate: 17-Jul-2002; LatestRevisionNote: Re-released for DXP Platform.; Publisher: Altium Limited
footprint CON_1.5MM_1X6_ (Contact pads, 6-Pin 1.5mm pitch)
pins: 1, 2, 3, 4, 5, 6

## CON_1.5mm_1x7_
designator XP
Header, 7-Pin; LatestRevisionDate: 17-Jul-2002; LatestRevisionNote: Re-released for DXP Platform.; Publisher: Altium Limited
footprint CON_1.5MM_1X7_ (Contact pads, 7-Pin 1.5mm pitch)
pins: 1, 2, 3, 4, 5, 6, 7

## CON_1.27mm_1x3_SWD
designator XP, comment SWD
ZL311,  1.27mm Single Row Header, Straight Type, 3 pin; LatestRevisionDate: 17-Jul-2002; LatestRevisionNote: Re-released for DXP Platform.; Publisher: Altium Limited
footprint CON_1.27MM_1X3_SWD (Connector; Header; 4 Position)
pins: 2 SWCLK, 3 GND, 4 SWDIO

## CON_1.27mm_1x4_SWD
designator XP, comment SWD
ZL311,  1.27mm Single Row Header, Straight Type, 4 pin; LatestRevisionDate: 17-Jul-2002; LatestRevisionNote: Re-released for DXP Platform.; Publisher: Altium Limited
footprint CON_1.27MM_1X4_SWD (Connector; Header; 4 Position)
pins: 1 VDD, 2 SWCLK, 3 GND, 4 SWDIO

## CON_1.27mm_1x14
designator XP?
ZL311,  1.27mm Single Row Header, Straight Type, 14 pin; LatestRevisionDate: 17-Jul-2002; LatestRevisionNote: Re-released for DXP Platform.; Publisher: Altium Limited
footprint CON_1.27MM_1X14 (Connector; Header; 4 Position)
pins: 1 "MISO", 2 "VCC+", 3 "SCK", 4 "MOSI", 5 "RESET", 6 "GND", 7 "GND", 8 "GND", 9, 10, 11, 12, 13, 14

## CON_1.27mm_1x15 Female
designator XS?
ZL311,  1.27mm Single Row Socket, Straight Type, 15 pin; LatestRevisionDate: 17-Jul-2002; LatestRevisionNote: Re-released for DXP Platform.; Publisher: Altium Limited
footprint CON_1.27MM_1X15 FEMALE (Connector; Header; 4 Position)
pins: 1 "MISO", 2 "VCC+", 3 "SCK", 4 "MOSI", 5 "RESET", 6 "GND", 7 "GND", 8 "GND", 9, 10, 11, 12, 13, 14, 15

## CON_1.27mm_1x15 Male
designator XP?
ZL311,  1.27mm Single Row Header, Straight Type, 15 pin; LatestRevisionDate: 17-Jul-2002; LatestRevisionNote: Re-released for DXP Platform.; Publisher: Altium Limited
footprint CON_1.27MM_1X15 MALE (Connector; Header; 4 Position)
pins: 1 "MISO", 2 "VCC+", 3 "SCK", 4 "MOSI", 5 "RESET", 6 "GND", 7 "GND", 8 "GND", 9, 10, 11, 12, 13, 14, 15

## CON_1.27mm_1x20 Female
designator XS?
ZL311,  1.27mm Single Row Socket, Straight Type, 20 pin; LatestRevisionDate: 17-Jul-2002; LatestRevisionNote: Re-released for DXP Platform.; Publisher: Altium Limited
footprint CON_1.27MM_1X20 FEMALE (Connector; Header; 4 Position)
pins: 1 "MISO", 2 "VCC+", 3 "SCK", 4 "MOSI", 5 "RESET", 6 "GND", 7 "GND", 8 "GND", 9, 10, 11, 12, 13, 14, 15, 16, 17, 18, 19, 20

## CON_1.27mm_1x20 Male
designator XP?
ZL311,  1.27mm Single Row Header, Straight Type,20 pin; LatestRevisionDate: 17-Jul-2002; LatestRevisionNote: Re-released for DXP Platform.; Publisher: Altium Limited
footprint CON_1.27MM_1X20 MALE (Connector; Header; 4 Position)
pins: 1 "MISO", 2 "VCC+", 3 "SCK", 4 "MOSI", 5 "RESET", 6 "GND", 7 "GND", 8 "GND", 9, 10, 11, 12, 13, 14, 15, 16, 17, 18, 19, 20

## CON_1.27mm_2X7_BH
designator XP
Header, 14-Pin; LatestRevisionDate: 17-Jul-2002; LatestRevisionNote: Re-released for DXP Platform.; Publisher: Altium Limited
footprint CON_1.27MM_2X7_BH (Connector; Header; 4 Position)
pins: 1 "MISO", 2 "VCC+", 3 "SCK", 4 "MOSI", 5 "RESET", 6 "GND", 7 "GND", 8 "GND", 9, 10, 11, 12, 13, 14

## CON_1x1_PIN
designator XP?
Plug papa; LatestRevisionDate: 17-Jul-2002; LatestRevisionNote: Re-released for DXP Platform.; Publisher: Altium Limited
signal-integrity model Connector
footprint CON_PIN1 (Connector; Plug)
footprint CON_PIN (Connector; Plug)
pins: 1

## CON_2.0mm_1x2
designator XP
Header, 3-Pin 2mm pitch; LatestRevisionDate: 17-Jul-2002; LatestRevisionNote: Re-released for DXP Platform.; Publisher: Altium Limited
footprint CON_2.0MM_1X2 (Connector; Header; 2 Position)
pins: 1 "MISO", 2 "VCC+"

## CON_2.0mm_1x3
designator XP
Header, 3-Pin 2mm pitch; LatestRevisionDate: 17-Jul-2002; LatestRevisionNote: Re-released for DXP Platform.; Publisher: Altium Limited
footprint CON_2.0MM_1X3 (Connector; Header; 4 Position)
pins: 1 "MISO", 2 "VCC+", 3 "SCK"

## CON_2.0mm_1x4
designator XP
Header, 4-Pin 2mm pitch; LatestRevisionDate: 17-Jul-2002; LatestRevisionNote: Re-released for DXP Platform.; Publisher: Altium Limited
footprint CON_2.0MM_1X4 (Connector; Header; 4 Position)
pins: 1 "MISO", 2 "VCC+", 3 "SCK", 4 "MOSI"

## CON_2.0mm_1x4_SWD
designator XP, comment SWD
Header, 4-Pin; LatestRevisionDate: 17-Jul-2002; LatestRevisionNote: Re-released for DXP Platform.; Publisher: Altium Limited
footprint CON_2.0MM_1X4_SWD (Connector; Header; 4 Position)
pins: 1 VDD, 2 SWCLK, 3 GND, 4 SWDIO

## CON_2.0mm_1x5
designator XP
Header, 5-Pin 2mm pitch; LatestRevisionDate: 17-Jul-2002; LatestRevisionNote: Re-released for DXP Platform.; Publisher: Altium Limited
footprint CON_2.0MM_1X5 (Connector; Header; 4 Position)
pins: 1 "MISO", 2 "VCC+", 3 "SCK", 4 "MOSI", 5 "RESET"

## CON_2.0mm_1x5 NXW-05K
designator XP, comment LVDS
NXW-05K, Header, 5-Pin 2mm pitch Manufacturer NIGINI; LatestRevisionDate: 17-Jul-2002; LatestRevisionNote: Re-released for DXP Platform.; Publisher: Altium Limited
footprint CON_2.0MM_1X5 NXW-05K (Connector; Header; 4 Position)
pins: 1 "MISO", 2 "VCC+", 3 "SCK", 4 "MOSI", 5 "RESET"

## CON_2.0mm_2x4
designator XP
Header, 8-Pin; LatestRevisionDate: 17-Jul-2002; LatestRevisionNote: Re-released for DXP Platform.; Publisher: Altium Limited
footprint CON_2.0MM_2X4 (Footprint not found)
pins: 1 "MISO", 2 "VCC+", 3 "SCK", 4 "MOSI", 5 "RESET", 6 "GND", 7 "GND", 8 "GND"

## CON_2.0MM_2X7
designator XP
Header, 14-Pin; LatestRevisionDate: 17-Jul-2002; LatestRevisionNote: Re-released for DXP Platform.; Publisher: Altium Limited
footprint CON_2.0MM_2X7_DS1014 - (Connector; Header;  Перепиновать)
pins: 1 "MISO", 2 "VCC+", 3 "SCK", 4 "MOSI", 5 "RESET", 6 "GND", 7 "GND", 8 "GND", 9, 10, 11, 12, 13, 14

## CON_2.0mm_2x8
designator XP
Header, 16-Pin; LatestRevisionDate: 17-Jul-2002; LatestRevisionNote: Re-released for DXP Platform.; Publisher: Altium Limited
footprint CON_2.0MM_2X8 (Connector; Header; 4 Position)
pins: 1 "MISO", 2 "VCC+", 3 "SCK", 4 "MOSI", 5 "RESET", 6 "GND", 7 "GND", 8 "GND", 9, 10, 11, 12, 13, 14, 15, 16

## CON_2.0mm_2x10
designator XP
Header, 20-Pin; LatestRevisionDate: 17-Jul-2002; LatestRevisionNote: Re-released for DXP Platform.; Publisher: Altium Limited
footprint CON_2.0MM_2X10 (Connector; Header; 4 Position)
pins: 1 "MISO", 2 "VCC+", 3 "SCK", 4 "MOSI", 5 "RESET", 6 "GND", 7 "GND", 8 "GND", 9, 10, 11, 12, 13, 14, 15, 16, 17, 18, 19, 20

## CON_2.0mm_2x15
designator XP
Header, 30-Pin; LatestRevisionDate: 17-Jul-2002; LatestRevisionNote: Re-released for DXP Platform.; Publisher: Altium Limited
footprint CON_2.0MM_2X15 (Connector; Header; 4 Position)
pins: 1 "MISO", 2 "VCC+", 3 "SCK", 4 "MOSI", 5 "RESET", 6 "GND", 7 "GND", 8 "GND", 9, 10, 11, 12, 13, 14, 15, 16, 17, 18, 19, 20, 21, 22, 23, 24, 25, 26, 27, 28, 29, 30

## CON_2.0mm_2x17
designator XP
Header, 34-Pin; LatestRevisionDate: 17-Jul-2002; LatestRevisionNote: Re-released for DXP Platform.; Publisher: Altium Limited
footprint CON_2.0MM_2X17 (Connector; Header; 4 Position)
pins: 1 "MISO", 2 "VCC+", 3 "SCK", 4 "MOSI", 5 "RESET", 6 "GND", 7 "GND", 8 "GND", 9, 10, 11, 12, 13, 14, 15, 16, 17, 18, 19, 20, 21, 22, 23, 24, 25, 26, 27, 28, 29, 30, 31, 32, 33, 34

## CON_2.54mm_1x2
designator XP, comment Connectors
Header, 2-Pin; LatestRevisionDate: 17-Jul-2002; LatestRevisionNote: Re-released for DXP Platform.; Publisher: Altium Limited
footprint CON_2.54MM_1X2 (Connector; Header; 2 Position)
pins: 1, 2

## CON_2.54mm_1x3
designator XP
Header, 3-Pin; LatestRevisionDate: 17-Jul-2002; LatestRevisionNote: Re-released for DXP Platform.; Publisher: Altium Limited
footprint CON_2.54MM_1X3 (Connector; Header; 3 Position)
footprint CON_2.54MM_1X3 ANGULAR (Connector; Header; 3 Position)
pins: 1, 2, 3

## CON_2.54mm_1x4
designator XP
Header, 4-Pin; LatestRevisionDate: 17-Jul-2002; LatestRevisionNote: Re-released for DXP Platform.; Publisher: Altium Limited
footprint CON_2.54MM_1X4 (Connector; Header; 4 Position)
footprint CON_2.54MM_1X4_EMPTY (Connector; Header; 4 Position)
pins: 1, 2, 3, 4

## CON_2.54mm_1x4_SWD
designator XP, comment SWD
Header, 4-Pin; LatestRevisionDate: 17-Jul-2002; LatestRevisionNote: Re-released for DXP Platform.; Publisher: Altium Limited
footprint CON_2.54MM_1X4 (Connector; Header; 4 Position)
footprint CON_2.54MM_1X4_EMPTY (Connector; Header; 4 Position)
pins: 1 VDD, 2 SWCLK, 3 GND, 4 SWDIO

## CON_2.54mm_1x5
designator XP, comment ISP
Header, 6-Pin; LatestRevisionDate: 17-Jul-2002; LatestRevisionNote: Re-released for DXP Platform.; Publisher: Altium Limited
footprint CON_2.54MM_1X5 (Connector; Header; 4 Position)
pins: 1 "MISO", 2 "VCC+", 3 "SCK", 4 "MOSI", 5 "RESET"

## CON_2.54mm_1x6
designator XP, comment ISP
Header, 6-Pin; LatestRevisionDate: 17-Jul-2002; LatestRevisionNote: Re-released for DXP Platform.; Publisher: Altium Limited
footprint CON_2.54MM_1X6 (Connector; Header; 4 Position)
pins: 1 "MISO", 2 "VCC+", 3 "SCK", 4 "MOSI", 5 "RESET", 6 "GND"

## CON_2.54mm_1x6_SWD
designator XP, comment SWD x6
Header, 6-Pin; LatestRevisionDate: 17-Jul-2002; LatestRevisionNote: Re-released for DXP Platform.; Publisher: Altium Limited
footprint CON_2.54MM_1X6 (Connector; Header; 4 Position)
pins: 1 VDD, 2 SWCLK, 3 GND, 4 SWDIO, 5 NRST "RESET", 6 SWO "GND"

## CON_2.54mm_1x8
designator XP, comment ISP
Header, 8-Pin; LatestRevisionDate: 17-Jul-2002; LatestRevisionNote: Re-released for DXP Platform.; Publisher: Altium Limited
footprint CON_2.54MM_1X8 (Connector; Header; 4 Position)
pins: 1 "MISO", 2 "VCC+", 3 "SCK", 4 "MOSI", 5 "RESET", 6 "GND", 7 "GND", 8 "GND"

## CON_2.54mm_1x12
designator XP
Header, 12-Pin; LatestRevisionDate: 17-Jul-2002; LatestRevisionNote: Re-released for DXP Platform.; Publisher: Altium Limited
footprint CON_2.54MM_1X12 (Connector; Header; 4 Position)
pins: 1 "MISO", 2 "VCC+", 3 "SCK", 4 "MOSI", 5 "RESET", 6 "GND", 7 "GND", 8 "GND", 9, 10, 11, 12

## CON_2.54mm_1x20
designator XP?
Header, 20-Pin; LatestRevisionDate: 17-Jul-2002; LatestRevisionNote: Re-released for DXP Platform.; Publisher: Altium Limited
footprint CON_2.54MM_1X20 (Connector; Header; 4 Position)
pins: 1 "MISO", 2 "VCC+", 3 "SCK", 4 "MOSI", 5 "RESET", 6 "GND", 7 "GND", 8 "GND", 9, 10, 11, 12, 13, 14, 15, 16, 17, 18, 19, 20

## CON_2.54mm_1x20_F
designator XS?, comment GLCD Seiko
Header, 20-Pin; LatestRevisionDate: 17-Jul-2002; LatestRevisionNote: Re-released for DXP Platform.; Publisher: Altium Limited
footprint CON_2.54MM_1X20 F (Connector; Header; 4 Position)
pins: 1 "MISO", 2 "VCC+", 3 "SCK", 4 "MOSI", 5 "RESET", 6 "GND", 7 "GND", 8 "GND", 9, 10, 11, 12, 13, 14, 15, 16, 17, 18, 19, 20

## CON_2.54mm_1x24_F
designator XP?
Header, 20-Pin; LatestRevisionDate: 17-Jul-2002; LatestRevisionNote: Re-released for DXP Platform.; Publisher: Altium Limited
footprint CON_2.54MM_1X24_F (Connector; Header; 4 Position)
pins: 1 "MISO", 2 "VCC+", 3 "SCK", 4 "MOSI", 5 "RESET", 6 "GND", 7 "GND", 8 "GND", 9, 10, 11, 12, 13, 14, 15, 16, 17, 18, 19, 20

## CON_2.54mm_2x3
designator XP, comment ISP
Header, 6-Pin; LatestRevisionDate: 17-Jul-2002; LatestRevisionNote: Re-released for DXP Platform.; Publisher: Altium Limited
footprint CON_2.54MM_2X3 (Connector; Header; 3 Position)
pins: 1 "MISO", 2 "VCC+", 3 "SCK", 4 "MOSI", 5 "RESET", 6 "GND"

## CON_2.54mm_2x7_IDC-14
designator XP
Header, 16-Pin; LatestRevisionDate: 17-Jul-2002; LatestRevisionNote: Re-released for DXP Platform.; Publisher: Altium Limited
footprint CON_2.54MM_2X7_IDC-14 (Connector; Header; 3 Position)
pins: 1 "MISO", 2 "VCC+", 3 "SCK", 4 "MOSI", 5 "RESET", 6 "GND", 7 "GND", 8 "GND", 9, 10, 11, 12, 13, 14

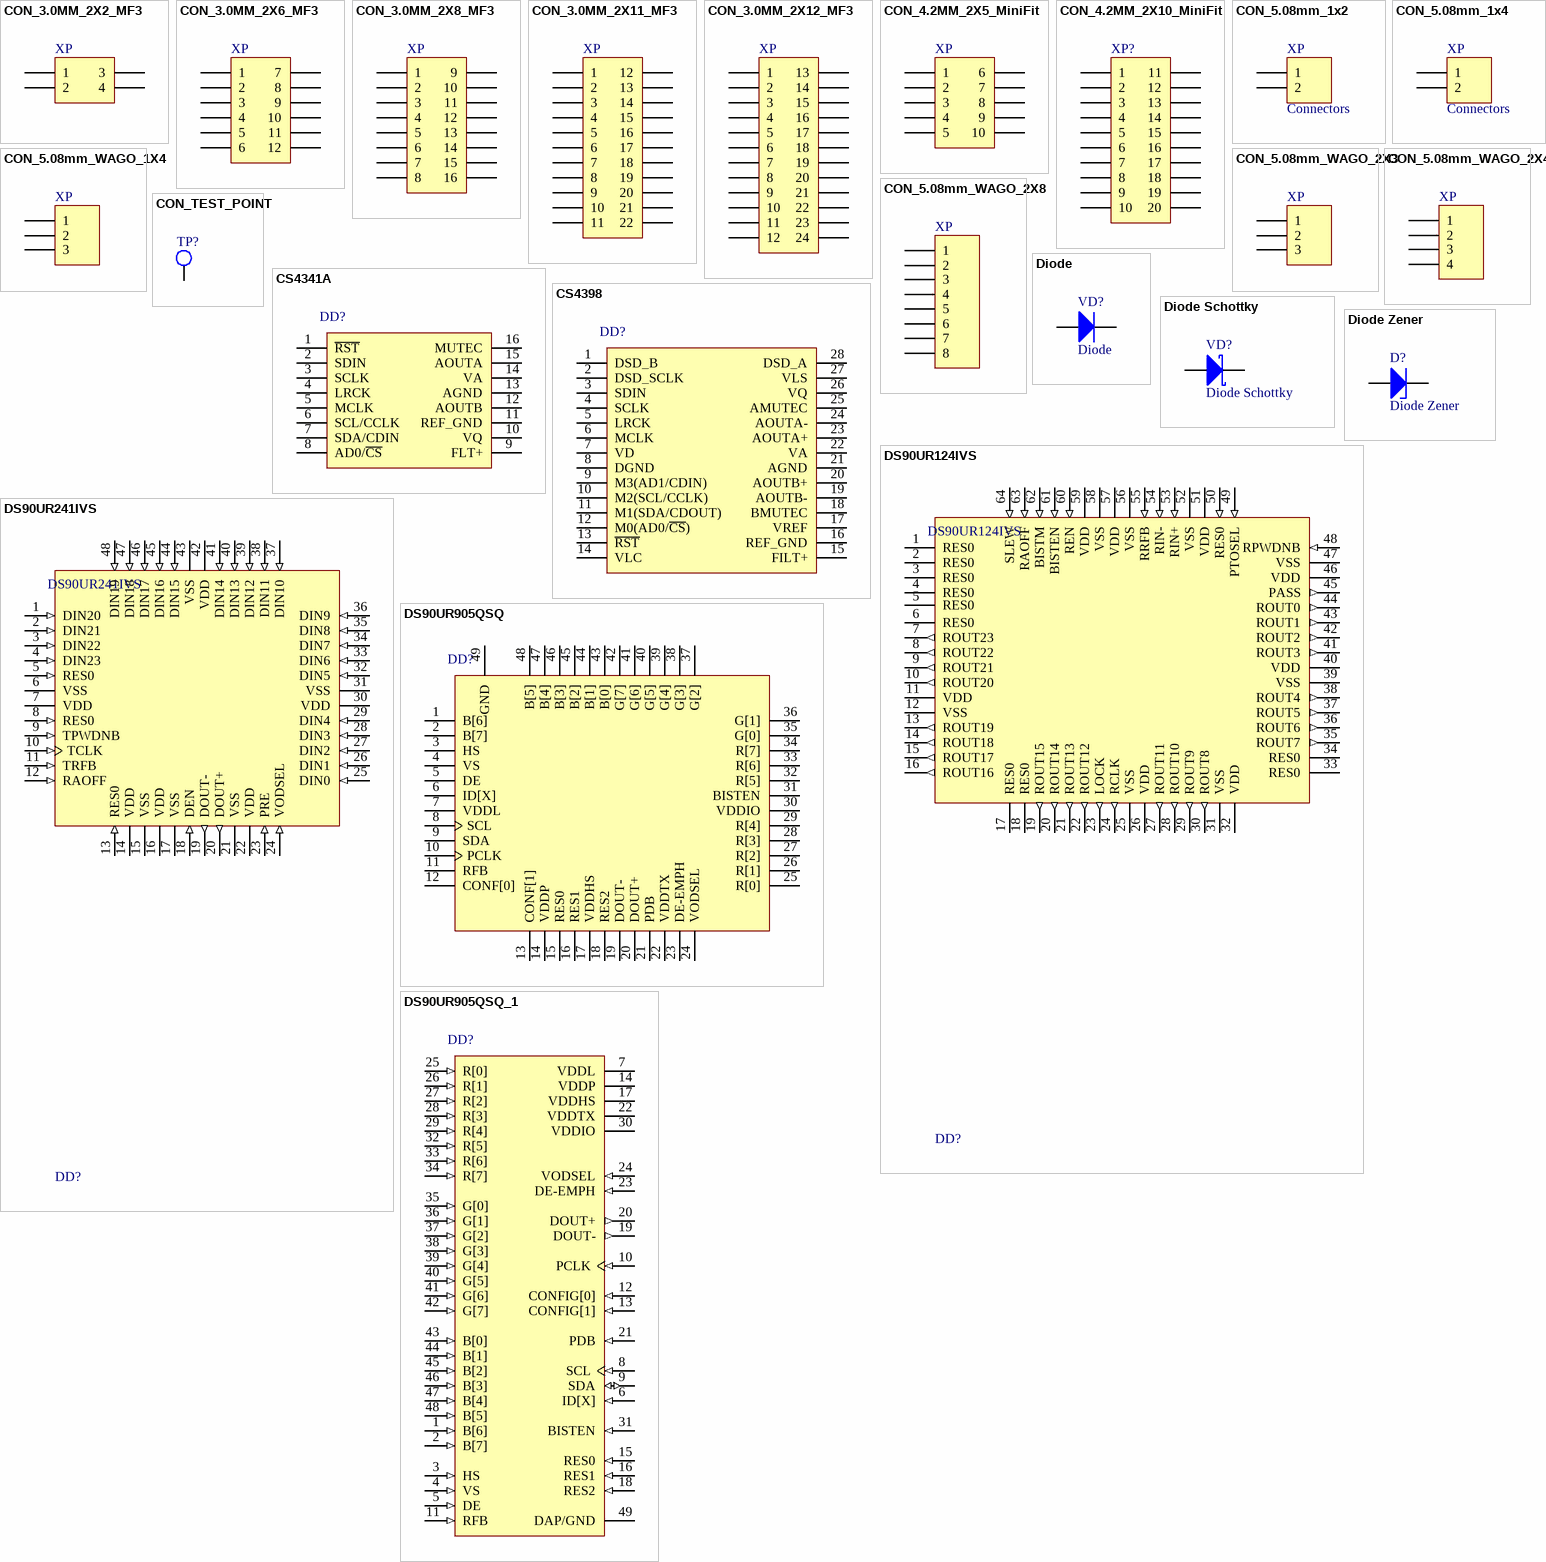
[diagram p2: symbols CON_3.0MM_2X2_MF3 to DS90UR905QSQ_1]

## CON_3.0MM_2X2_MF3
designator XP
Header, 22-Pin; LatestRevisionDate: 17-Jul-2002; LatestRevisionNote: Re-released for DXP Platform.; Publisher: Altium Limited
footprint CON_3.0MM_2X2_MF3-4MRA (Connector; Header)
pins: 1 "MISO", 2 "VCC+", 3 "SCK", 4 "MOSI"

## CON_3.0MM_2X6_MF3
designator XP
Header, 22-Pin; LatestRevisionDate: 17-Jul-2002; LatestRevisionNote: Re-released for DXP Platform.; Publisher: Altium Limited
footprint CON_3.0MM_2X6_MF3-12MRA (Connector; Header)
pins: 1 "MISO", 2 "VCC+", 3 "SCK", 4 "MOSI", 5 "RESET", 6 "GND", 7 "GND", 8 "GND", 9, 10, 11, 12

## CON_3.0MM_2X8_MF3
designator XP
Header, 22-Pin; LatestRevisionDate: 17-Jul-2002; LatestRevisionNote: Re-released for DXP Platform.; Publisher: Altium Limited
footprint CON_3.0MM_2X8_MF3-16MRA (Connector; Header)
pins: 1 "MISO", 2 "VCC+", 3 "SCK", 4 "MOSI", 5 "RESET", 6 "GND", 7 "GND", 8 "GND", 9, 10, 11, 12, 13, 14, 15, 16

## CON_3.0MM_2X11_MF3
designator XP
Header, 22-Pin; LatestRevisionDate: 17-Jul-2002; LatestRevisionNote: Re-released for DXP Platform.; Publisher: Altium Limited
footprint CON_3.0MM_2X11_MF3-22MRA (Connector; Header)
pins: 1 "MISO", 2 "VCC+", 3 "SCK", 4 "MOSI", 5 "RESET", 6 "GND", 7 "GND", 8 "GND", 9, 10, 11, 12, 13, 14, 15, 16, 17, 18, 19, 20, 21, 22

## CON_3.0MM_2X12_MF3
designator XP
Header, 24-Pin; LatestRevisionDate: 17-Jul-2002; LatestRevisionNote: Re-released for DXP Platform.; Publisher: Altium Limited
footprint CON_3.0MM_2X12_MF3-24MRA (Connector; Header)
pins: 1 "MISO", 2 "VCC+", 3 "SCK", 4 "MOSI", 5 "RESET", 6 "GND", 7 "GND", 8 "GND", 9, 10, 11, 12, 13, 14, 15, 16, 17, 18, 19, 20, 21, 22, 23, 24

## CON_4.2MM_2X5_MiniFit
designator XP
Header, 14-Pin; LatestRevisionDate: 17-Jul-2002; LatestRevisionNote: Re-released for DXP Platform.; Publisher: Altium Limited
footprint CON_4.2MM_2X5_MINIFIT (Footprint not found)
pins: 1 "MISO", 2 "VCC+", 3 "SCK", 4 "MOSI", 5 "RESET", 6 "GND", 7 "GND", 8 "GND", 9, 10